# EAGLE library part M25P16-MF (library IC)
*St Micro M25P16 Flash in a SO16 Wide Package
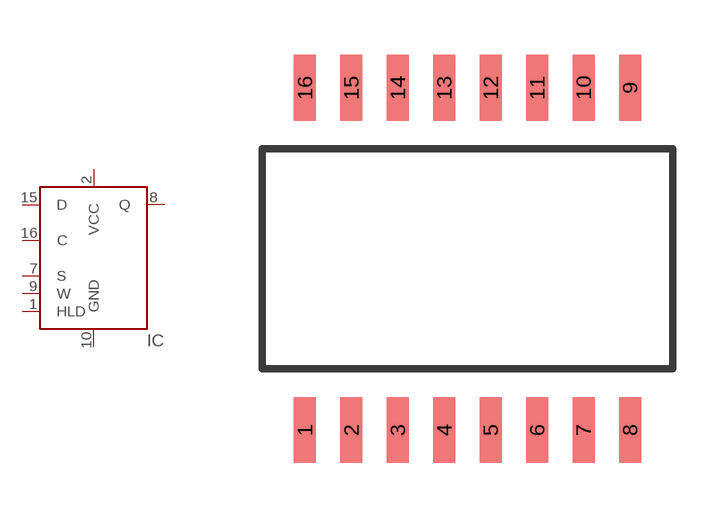
[diagram p110: symbol with the pads of SO16-W; footprint SO16-W]

Designator prefix IC

## M25P16-MF  [SO16-W]
1  HLD
2  VCC  pwr
7  S
8  Q  out
9  W
10  GND  pwr
15  D  in
16  C

## Footprint SO16-W (pad centres in mm)
SO16 (ST Micro) Wide
smd 0.6 x 1.8: 1 -4.445,-4.679; 2 -3.175,-4.679; 3 -1.905,-4.679; 4 -0.635,-4.679; 5 0.635,-4.679; 6 1.905,-4.679; 7 3.175,-4.679; 8 4.445,-4.679; 9 4.445,4.679; 10 3.175,4.679; 11 1.905,4.679; 12 0.635,4.679; 13 -0.635,4.679; 14 -1.905,4.679; 15 -3.175,4.679; 16 -4.445,4.679